# EAGLE library part STAXB_MODULE (library STAXB_MODULE)
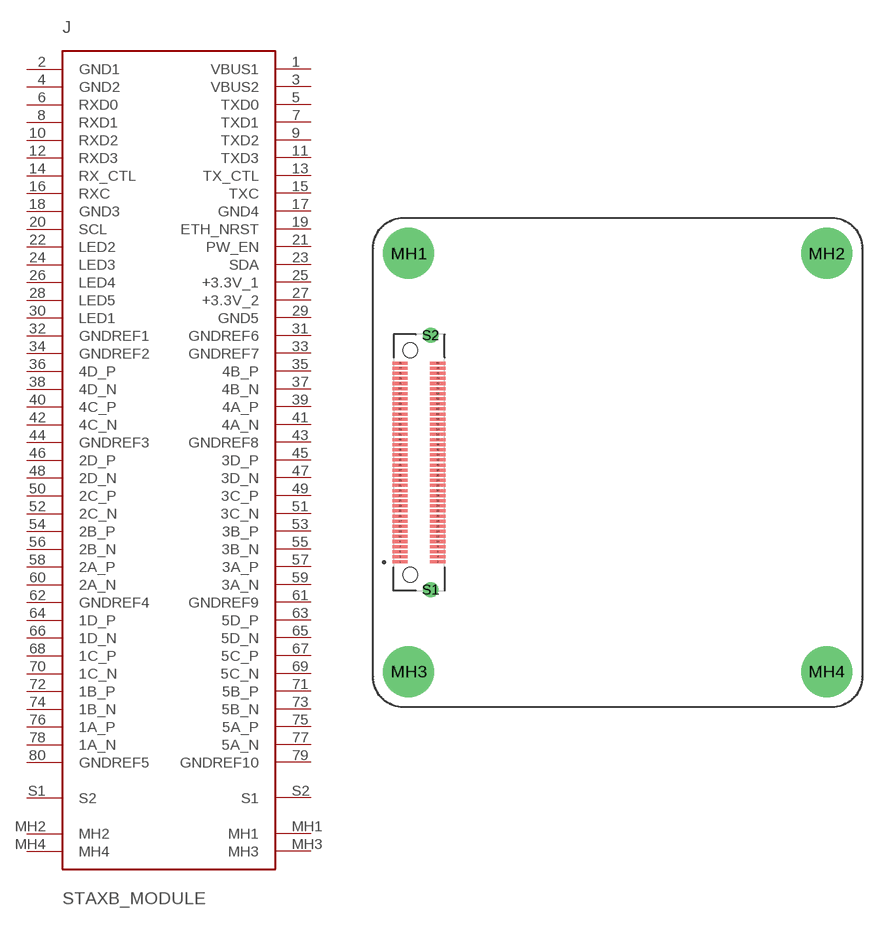
[diagram p0: symbol with the pads of STAXB_MODULE; footprint STAXB_MODULE]

Designator prefix J

## STAXB_MODULE  [STAXB_MODULE]
1  VBUS1  pwr
2  GND1  pwr
3  VBUS2  pwr
4  GND2  pwr
5  TXD0
6  RXD0
7  TXD1
8  RXD1
9  TXD2
10  RXD2
11  TXD3
12  RXD3
13  TX_CTL
14  RX_CTL
15  TXC
16  RXC
17  GND4
18  GND3  pwr
19  ETH_NRST
20  SCL
21  PW_EN
22  LED2
23  SDA
24  LED3
25  +3.3V_1  pwr
26  LED4
27  +3.3V_2  pwr
28  LED5
29  GND5  pwr
30  LED1
31  GNDREF6  pwr
32  GNDREF1  pwr
33  GNDREF7  pwr
34  GNDREF2  pwr
35  4B_P
36  4D_P
37  4B_N
38  4D_N
39  4A_P
40  4C_P
41  4A_N
42  4C_N
43  GNDREF8  pwr
44  GNDREF3  pwr
45  3D_P
46  2D_P
47  3D_N
48  2D_N
49  3C_P
50  2C_P
51  3C_N
52  2C_N
53  3B_P
54  2B_P
55  3B_N
56  2B_N
57  3A_P
58  2A_P
59  3A_N
60  2A_N
61  GNDREF9  pwr
62  GNDREF4  pwr
63  5D_P
64  1D_P
65  5D_N
66  1D_N
67  5C_P
68  1C_P
69  5C_N
70  1C_N
71  5B_P
72  1B_P
73  5B_N
74  1B_N
75  5A_P
76  1A_P
77  5A_N
78  1A_N
79  GNDREF10  pwr
80  GNDREF5  pwr
MH1  MH1
MH2  MH2
MH3  MH3
MH4  MH4
S1  S2
S2  S1

## Footprint STAXB_MODULE (pad centres in mm)
smd 1.5 x 0.3: 1 -1.85,-9.75; 2 1.85,-9.75; 3 -1.85,-9.25; 4 1.85,-9.25; 5 -1.85,-8.75; 6 1.85,-8.75; 7 -1.85,-8.25; 8 1.85,-8.25; 9 -1.85,-7.75; 10 1.85,-7.75; 11 -1.85,-7.25; 12 1.85,-7.25; 13 -1.85,-6.75; 14 1.85,-6.75; 15 -1.85,-6.25; 16 1.85,-6.25; 17 -1.85,-5.75; 18 1.85,-5.75; 19 -1.85,-5.25; 20 1.85,-5.25; 21 -1.85,-4.75; 22 1.85,-4.75; 23 -1.85,-4.25; 24 1.85,-4.25; 25 -1.85,-3.75; 26 1.85,-3.75; 27 -1.85,-3.25; 28 1.85,-3.25; 29 -1.85,-2.75; 30 1.85,-2.75; 31 -1.85,-2.25; 32 1.85,-2.25; 33 -1.85,-1.75; 34 1.85,-1.75; 35 -1.85,-1.25; 36 1.85,-1.25; 37 -1.85,-0.75; 38 1.85,-0.75; 39 -1.85,-0.25; 40 1.85,-0.25; 41 -1.85,0.25; 42 1.85,0.25; 43 -1.85,0.75; 44 1.85,0.75; 45 -1.85,1.25; 46 1.85,1.25; 47 -1.85,1.75; 48 1.85,1.75; 49 -1.85,2.25; 50 1.85,2.25; 51 -1.85,2.75; 52 1.85,2.75; 53 -1.85,3.25; 54 1.85,3.25; 55 -1.85,3.75; 56 1.85,3.75; 57 -1.85,4.25; 58 1.85,4.25; 59 -1.85,4.75; 60 1.85,4.75; 61 -1.85,5.25; 62 1.85,5.25; 63 -1.85,5.75; 64 1.85,5.75; 65 -1.85,6.25; 66 1.85,6.25; 67 -1.85,6.75; 68 1.85,6.75; 69 -1.85,7.25; 70 1.85,7.25; 71 -1.85,7.75; 72 1.85,7.75; 73 -1.85,8.25; 74 1.85,8.25; 75 -1.85,8.75; 76 1.85,8.75; 77 -1.85,9.25; 78 1.85,9.25; 79 -1.85,9.75; 80 1.85,9.75
drill 3.2 pad 5: MH1 -1,20.5; MH2 40,20.5; MH3 -1,-20.5; MH4 40,-20.5
drill 1 pad 1.5: S1 1.15,-12.475; S2 1.15,12.475
hole 1.45 at -0.85,11
hole 1.45 at -0.85,-11